# Altium schematic symbol library Mechanicals.SchLib: 3 symbols
Pins are listed as number, name and electrical type; pins without a type are passive.

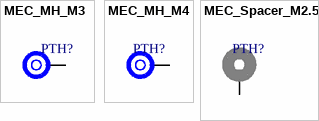
[diagram p0: symbols MEC_MH_M3 to MEC_Spacer_M2.5]

## MEC_MH_M3
designator PTH?, comment Mouting Hole  (value not drawn)
Pad though for MB standoffs
footprint MEC_MH_M3
pins: 0

## MEC_MH_M4
designator PTH?, comment Mouting Hole  (value not drawn)
Pad though for MB standoffs
footprint MEC_MH_M4
pins: 0

## MEC_Spacer_M2.5
designator PTH?  (value not drawn)
SMT Steel Spacer, M2.5 Thread Internal, OD 5.1mm, M2.5; Mrf. Part: ?; LCSCPCB Part: ?; JLCPCB Part: ?
footprint MEC_Spacer_M2.5x3mm
footprint MEC_Spacer_M2.5x1.5mm
pins: 1